# Altium footprint library Connectors_SMD.PcbLib: 40 footprints (part 1 of 3)
Each footprint in its own frame and in the unit in brackets; x right, y up, seen from the top. Pads: shape width x height; smd on the part's side, far side on the other; paste and mask are expansions set on the pad; w line width, h text height; cw(c..) or ccw(c..) is an arc to the next point about the centre after c.
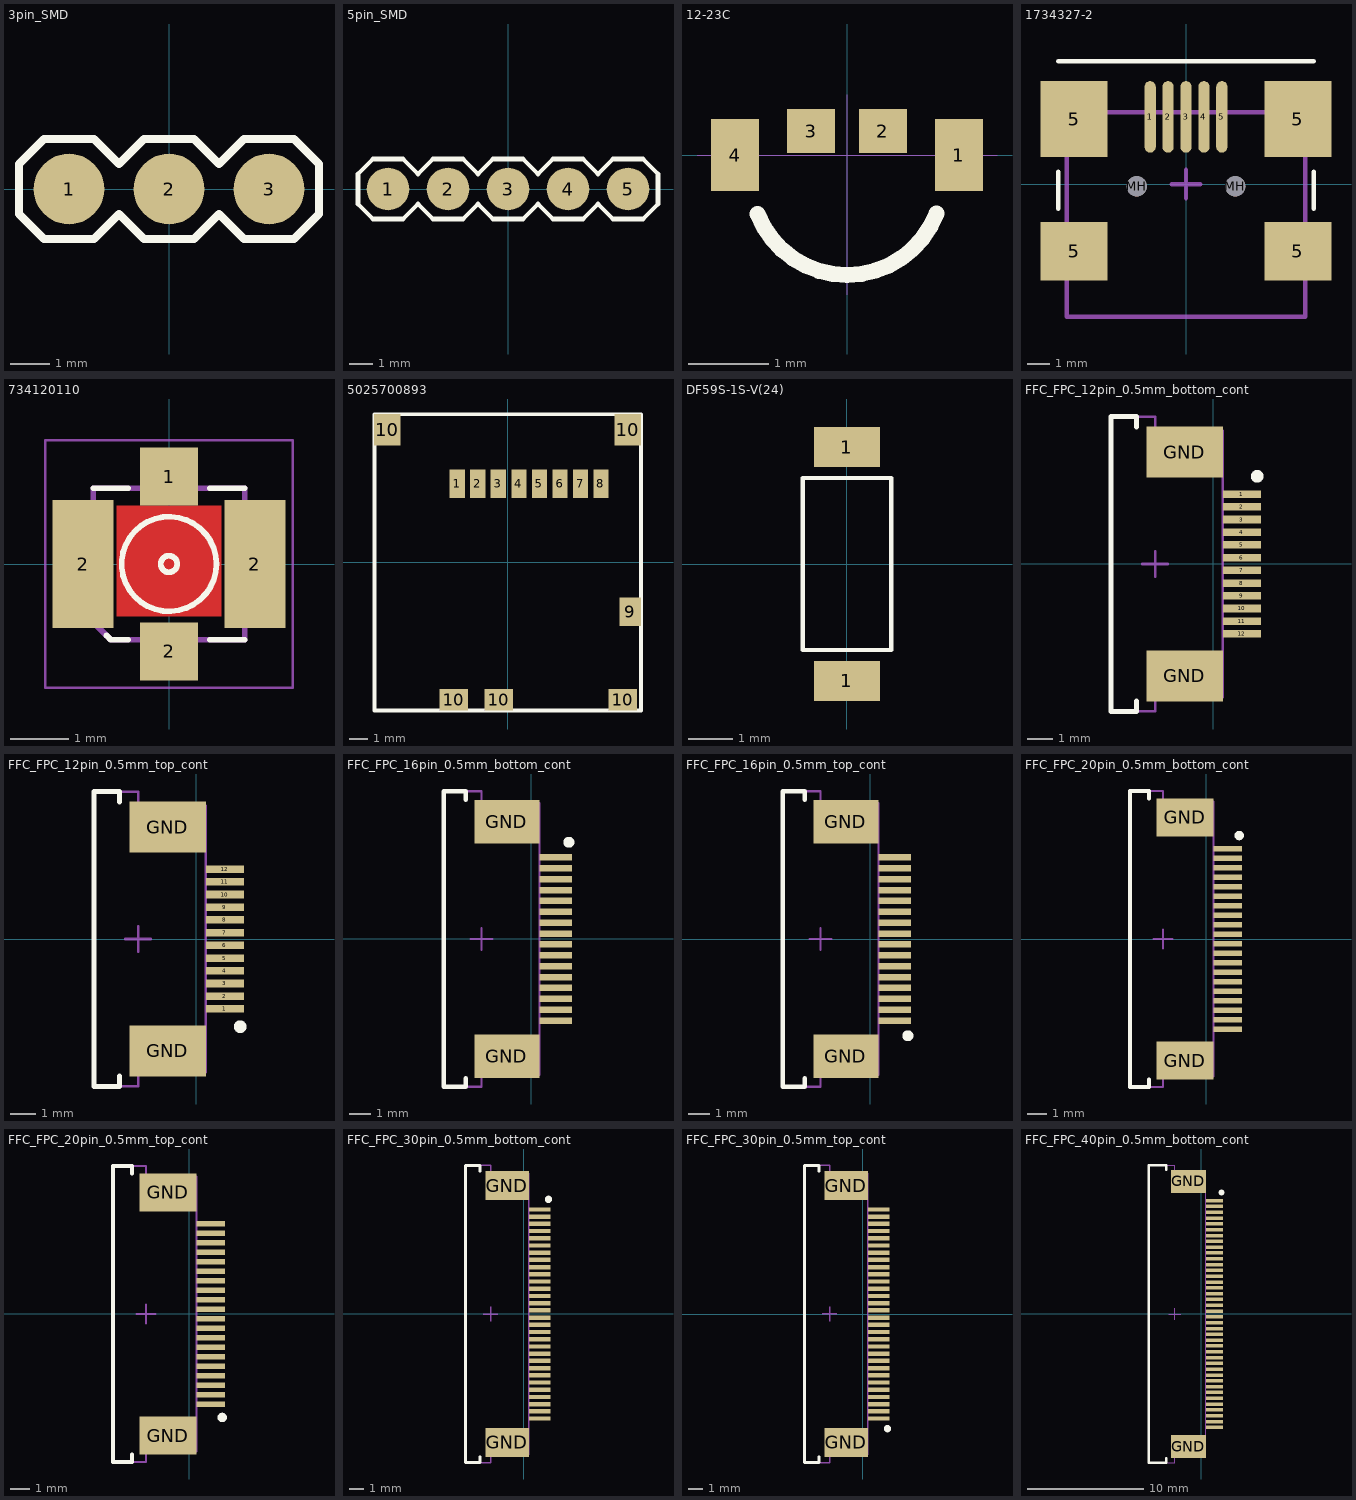
[diagram p0: the footprints below, top view; thin cyan lines are the x and y axes]

## 3pin_SMD [mm]
pads (3):
  round 1.8 smd: 1(-2.54,0) 2(0,0) 3(2.54,0)
Top Overlay:
  lines w0.2: -3.81,-0.635 -3.175,-1.27 -1.905,-1.27 -1.27,-0.635 -0.635,-1.27 0.635,-1.27 1.27,-0.635 1.905,-1.27 3.175,-1.27 3.81,-0.635 3.81,0.635 3.175,1.27 1.905,1.27 1.27,0.635 0.635,1.27 -0.635,1.27 -1.27,0.635 -1.905,1.27 -3.175,1.27 -3.81,0.635 -3.81,-0.635

## 5pin_SMD [mm]
pads (5):
  round 1.8 smd: 1(-5.08,0) 2(-2.54,0) 3(0,0) 4(2.54,0) 5(5.08,0)
Top Overlay:
  lines w0.2: -6.35,-0.635 -5.715,-1.27 -4.445,-1.27 -3.81,-0.635 -3.175,-1.27 -1.905,-1.27 -1.27,-0.635 -0.635,-1.27 0.635,-1.27 1.27,-0.635 1.905,-1.27 3.175,-1.27 3.81,-0.635 4.445,-1.27 5.715,-1.27 6.35,-0.635 6.35,0.635 5.715,1.27 4.445,1.27 3.81,0.635 3.175,1.27 1.905,1.27 1.27,0.635 0.635,1.27 -0.635,1.27 -1.27,0.635 -1.905,1.27 -3.175,1.27 -3.81,0.635 -4.445,1.27 -5.715,1.27 -6.35,0.635 -6.35,-0.635

## 12-23C [mm] "Full Color Chip LED (Chip LED with Right Angle Lens)"
height 1
pads (4):
  rect 0.6x0.9 smd: 1(1.4,0) 4(-1.4,0)
  rect 0.6x0.55 smd: 2(0.45,0.3) 3(-0.45,0.3)
Top Overlay:
  lines w0.2: -1.117,-0.737 ccw(c0,-0.3) 1.119,-0.732
Mechanical 14:
  lines w0.01: -1.875,0 1.875,0 ; 0,-1.75 0,0.75
3D body "APFA3010.STEP": height 1.48, standoff -0.03, extent -1.5,-0.5 1.5,0.5

## 1734327-2 [mm] "MINI USB Connector A series, RCPT, R/A, SMT Type"
height 3.95
pads (11):
  oval 0.5x3.2 smd: 1(-1.6,3) 2(-0.8,3) 3(0,3) 4(0.8,3) 5(1.6,3)
  rect 3x2.6 smd: 5(-5,-3) 5(5,-3)
  rect 3x3.4 smd: 5(-5,2.9) 5(5,2.9)
  round 0.9 hole 0.9 unplated: MH(-2.2,-0.1) MH(2.2,-0.1)
Top Overlay:
  lines w0.2: -5.715,-1.109 -5.715,0.542 ; -5.715,5.495 5.715,5.495 ; 5.715,-1.109 5.715,0.542
Mechanical 13:
  lines w0.2: -5.334,-5.935 -5.334,3.209 5.334,3.209 5.334,-5.935 -5.334,-5.935
Mechanical 15:
  lines w0.2: -0.635,0 0.635,0 ; 0,-0.635 0,0.635
3D body "SB_mini_B.step": height 3.95, standoff -1, extent -5.35,-5.973 5.35,3.227

## 734120110 [mm] "1 Inner needle IPEX Board Edge 1.3mm 6GHz 2mm SMD RF Connectors / Coaxial Connectors"
height 0.6
pads (4):
  rect 1x1 smd: 1(0,1.5) 2(0,-1.5)
  rect 1.05x2.2 smd: 2(-1.475,0) 2(1.475,0)
Top Layer:
  pour cut-out: -0.9,1 0.9,1 0.9,-0.9 -0.9,-0.9
Top Overlay:
  circle w0.1: c0,0 r0.813
  circle w0.1: c0,0 r0.141
  lines w0.1: -1.3,1.3 -0.7,1.3 ; -1.071,-1.229 -1,-1.3 -0.7,-1.3 ; 0.7,-1.3 1.3,-1.3 ; 0.7,1.3 1.3,1.3
Mechanical 5:
  lines w0.1: -1.3,-1 -1,-1.3 1.3,-1.3 1.3,1.3 -1.3,1.3 -1.3,-1
Mechanical 15:
  lines w0.05: -2.125,-2.125 -2.125,2.125 2.125,2.125 2.125,-2.125 -2.125,-2.125
  lines w0.1: -0.45,0 0.45,0 ; 0,-0.45 0,0.45
3D body "734120110.stp": height 1.3, standoff 0, extent -1.5,-1.54 1.5,1.54

## 5025700893 [mil] "Molex MicroSD Conector"
height 70.87
pads (14):
  rect 32x60 smd: 1(-106.3,166) 2(-62.99,166) 3(-19.68,166) 4(24,166) 5(67,166) 6(111,166) 7(154,166) 8(197,166)
  rect 46x60 smd: 9(259,-104.33)
  rect 56x67 smd: 10(-253.94,280) 10(254,280)
  rect 60x46 smd: 10(-114.17,-290.35) 10(-19.17,-290.35) 10(243,-290.35)
Top Overlay:
  lines w7.87: -281.5,-312.99 -281.5,313 282,313 282,-312.99 -281.5,-312.99
3D body "5025700893.stp": height 70.87, standoff 0, extent -272.64,-305.12 270.67,305.12

## DF59S-1S-V(24) [mm] "Electrical contact for PCB"
height 1
pads (2):
  rect 1.5x0.9 smd: 1(0,-2.65) 1(0,2.65)
Top Overlay:
  lines w0.1: -1,-1.95 -1,1.95 1,1.95 1,-1.95 -1,-1.95
3D body "HIROSE_DF59S_for_PCB.STEP": height 1, standoff 0, extent -0.85,-2.9 0.85,2.9

## FFC_FPC_12pin_0.5mm_bottom_cont [mm] "0.5mm FFC/FPC connector, 90° SMT type, ZIF, bottom contact style"
height 2
pads (14):
  rect 1.5x0.3 smd: 1(1.125,2.75) 2(1.125,2.25) 3(1.125,1.75) 4(1.125,1.25) 5(1.125,0.75) 6(1.125,0.25) 7(1.125,-0.25) 8(1.125,-0.75) 9(1.125,-1.25) 10(1.125,-1.75) 11(1.125,-2.25) 12(1.125,-2.75)
  rect 3x2 smd: GND(-1.125,-4.4) GND(-1.125,4.4)
Top Overlay:
  circle w0.25: c1.725,3.45 r0.125
  lines w0.2: -3.025,-5.4 -3.025,-5.8 -4.025,-5.8 -4.025,5.8 -3.025,5.8 -3.025,5.4
Mechanical 13:
  lines w0.1: -4.025,-5.8 -4.025,5.8 -2.288,5.8 -2.288,5.25 0.375,5.25 0.375,-5.25 -2.288,-5.25 -2.288,-5.8 -4.025,-5.8
Mechanical 15:
  lines w0.05: -4.025,-5.8 -4.025,5.8 -2.288,5.8 -2.288,5.25 0.375,5.25 0.375,-5.25 -2.288,-5.25 -2.288,-5.8 -4.025,-5.8
  lines w0.1: -2.788,0 -1.788,0 ; -2.288,-0.5 -2.288,0.5
3D body: height 2, standoff 0.1, extent -3.025,-5.25 0.375,5.25
3D body: height 2, standoff 0.1, extent -4.025,-5.8 -3.025,5.8

## FFC_FPC_12pin_0.5mm_top_cont [mm] "0.5mm FFC/FPC connector, 90° SMT type, ZIF, top contact style"
height 2
pads (14):
  rect 1.5x0.3 smd: 1(1.125,-2.75) 2(1.125,-2.25) 3(1.125,-1.75) 4(1.125,-1.25) 5(1.125,-0.75) 6(1.125,-0.25) 7(1.125,0.25) 8(1.125,0.75) 9(1.125,1.25) 10(1.125,1.75) 11(1.125,2.25) 12(1.125,2.75)
  rect 3x2 smd: GND(-1.125,-4.4) GND(-1.125,4.4)
Top Overlay:
  circle w0.25: c1.725,-3.45 r0.125
  lines w0.2: -3.025,-5.4 -3.025,-5.8 -4.025,-5.8 -4.025,5.8 -3.025,5.8 -3.025,5.4
Mechanical 13:
  lines w0.1: -4.025,-5.8 -4.025,5.8 -2.288,5.8 -2.288,5.25 0.375,5.25 0.375,-5.25 -2.288,-5.25 -2.288,-5.8 -4.025,-5.8
Mechanical 15:
  lines w0.05: -4.025,-5.8 -4.025,5.8 -2.288,5.8 -2.288,5.25 0.375,5.25 0.375,-5.25 -2.288,-5.25 -2.288,-5.8 -4.025,-5.8
  lines w0.1: -2.788,0 -1.788,0 ; -2.288,-0.5 -2.288,0.5
3D body: height 2, standoff 0.1, extent -3.025,-5.25 0.375,5.25
3D body: height 2, standoff 0.1, extent -4.025,-5.8 -3.025,5.8

## FFC_FPC_16pin_0.5mm_bottom_cont [mm] "0.5mm FFC/FPC connector, 90° SMT type, ZIF, bottom contact style"
height 2
pads (18):
  rect 1.5x0.3 smd: 1(1.125,3.75) 2(1.125,3.25) 3(1.125,2.75) 4(1.125,2.25) 5(1.125,1.75) 6(1.125,1.25) 7(1.125,0.75) 8(1.125,0.25) 9(1.125,-0.25) 10(1.125,-0.75) 11(1.125,-1.25) 12(1.125,-1.75) 13(1.125,-2.25) 14(1.125,-2.75) 15(1.125,-3.25) 16(1.125,-3.75)
  rect 3x2 smd: GND(-1.125,-5.4) GND(-1.125,5.4)
Top Overlay:
  circle w0.25: c1.725,4.45 r0.125
  lines w0.2: -3.025,-6.4 -3.025,-6.8 -4.025,-6.8 -4.025,6.8 -3.025,6.8 -3.025,6.4
Mechanical 13:
  lines w0.1: -4.025,-6.8 -4.025,6.8 -2.288,6.8 -2.288,6.25 0.375,6.25 0.375,-6.25 -2.288,-6.25 -2.288,-6.8 -4.025,-6.8
Mechanical 15:
  lines w0.05: -4.025,-6.8 -4.025,6.8 -2.288,6.8 -2.288,6.25 0.375,6.25 0.375,-6.25 -2.288,-6.25 -2.288,-6.8 -4.025,-6.8
  lines w0.1: -2.788,0 -1.788,0 ; -2.288,-0.5 -2.288,0.5
3D body: height 2, standoff 0.1, extent -4.025,-6.8 -3.025,6.8
3D body: height 2, standoff 0.1, extent -3.025,-6.25 0.375,6.25

## FFC_FPC_16pin_0.5mm_top_cont [mm] "0.5mm FFC/FPC connector, 90° SMT type, ZIF, top contact style"
height 2
pads (18):
  rect 1.5x0.3 smd: 1(1.125,-3.75) 2(1.125,-3.25) 3(1.125,-2.75) 4(1.125,-2.25) 5(1.125,-1.75) 6(1.125,-1.25) 7(1.125,-0.75) 8(1.125,-0.25) 9(1.125,0.25) 10(1.125,0.75) 11(1.125,1.25) 12(1.125,1.75) 13(1.125,2.25) 14(1.125,2.75) 15(1.125,3.25) 16(1.125,3.75)
  rect 3x2 smd: GND(-1.125,-5.4) GND(-1.125,5.4)
Top Overlay:
  circle w0.25: c1.725,-4.45 r0.125
  lines w0.2: -3.025,-6.4 -3.025,-6.8 -4.025,-6.8 -4.025,6.8 -3.025,6.8 -3.025,6.4
Mechanical 13:
  lines w0.1: -4.025,-6.8 -4.025,6.8 -2.288,6.8 -2.288,6.25 0.375,6.25 0.375,-6.25 -2.288,-6.25 -2.288,-6.8 -4.025,-6.8
Mechanical 15:
  lines w0.05: -4.025,-6.8 -4.025,6.8 -2.288,6.8 -2.288,6.25 0.375,6.25 0.375,-6.25 -2.288,-6.25 -2.288,-6.8 -4.025,-6.8
  lines w0.1: -2.788,0 -1.788,0 ; -2.288,-0.5 -2.288,0.5
3D body: height 2, standoff 0.1, extent -3.025,-6.25 0.375,6.25
3D body: height 2, standoff 0.1, extent -4.025,-6.8 -3.025,6.8

## FFC_FPC_20pin_0.5mm_bottom_cont [mm] "0.5mm FFC/FPC connector, 90° SMT type, ZIF, bottom contact style"
height 2
pads (22):
  rect 1.5x0.3 smd: 1(1.125,4.75) 2(1.125,4.25) 3(1.125,3.75) 4(1.125,3.25) 5(1.125,2.75) 6(1.125,2.25) 7(1.125,1.75) 8(1.125,1.25) 9(1.125,0.75) 10(1.125,0.25) 11(1.125,-0.25) 12(1.125,-0.75) 13(1.125,-1.25) 14(1.125,-1.75) 15(1.125,-2.25) 16(1.125,-2.75) 17(1.125,-3.25) 18(1.125,-3.75) 19(1.125,-4.25) 20(1.125,-4.75)
  rect 3x2 smd: GND(-1.125,-6.4) GND(-1.125,6.4)
Top Overlay:
  circle w0.25: c1.725,5.45 r0.125
  lines w0.2: -3.025,-7.4 -3.025,-7.8 -4.025,-7.8 -4.025,7.8 -3.025,7.8 -3.025,7.4
Mechanical 13:
  lines w0.1: -4.025,-7.8 -2.288,-7.8 -2.288,-7.25 0.375,-7.25 0.375,7.25 -2.288,7.25 -2.288,7.8 -4.025,7.8 -4.025,-7.8
Mechanical 15:
  lines w0.05: -4.025,-7.8 -2.288,-7.8 -2.288,-7.25 0.375,-7.25 0.375,7.25 -2.288,7.25 -2.288,7.8 -4.025,7.8 -4.025,-7.8
  lines w0.1: -2.788,0 -1.788,0 ; -2.288,-0.5 -2.288,0.5
3D body: height 2, standoff 0.1, extent -4.025,-7.8 -3.025,7.8
3D body: height 2, standoff 0.1, extent -3.025,-7.25 0.375,7.25

## FFC_FPC_20pin_0.5mm_top_cont [mm] "0.5mm FFC/FPC connector, 90° SMT type, ZIF, top contact style"
height 2
pads (22):
  rect 1.5x0.3 smd: 1(1.125,-4.75) 2(1.125,-4.25) 3(1.125,-3.75) 4(1.125,-3.25) 5(1.125,-2.75) 6(1.125,-2.25) 7(1.125,-1.75) 8(1.125,-1.25) 9(1.125,-0.75) 10(1.125,-0.25) 11(1.125,0.25) 12(1.125,0.75) 13(1.125,1.25) 14(1.125,1.75) 15(1.125,2.25) 16(1.125,2.75) 17(1.125,3.25) 18(1.125,3.75) 19(1.125,4.25) 20(1.125,4.75)
  rect 3x2 smd: GND(-1.125,-6.4) GND(-1.125,6.4)
Top Overlay:
  circle w0.25: c1.725,-5.45 r0.125
  lines w0.2: -3.025,-7.4 -3.025,-7.8 -4.025,-7.8 -4.025,7.8 -3.025,7.8 -3.025,7.4
Mechanical 13:
  lines w0.1: -4.025,-7.8 -4.025,7.8 -2.288,7.8 -2.288,7.25 0.375,7.25 0.375,-7.25 -2.288,-7.25 -2.288,-7.8 -4.025,-7.8
Mechanical 15:
  lines w0.05: -4.025,-7.8 -4.025,7.8 -2.288,7.8 -2.288,7.25 0.375,7.25 0.375,-7.25 -2.288,-7.25 -2.288,-7.8 -4.025,-7.8
  lines w0.1: -2.788,0 -1.788,0 ; -2.288,-0.5 -2.288,0.5
3D body: height 2, standoff 0.1, extent -3.025,-7.25 0.375,7.25
3D body: height 2, standoff 0.1, extent -4.025,-7.8 -3.025,7.8

## FFC_FPC_30pin_0.5mm_bottom_cont [mm] "0.5mm FFC/FPC connector, 90° SMT type, ZIF, bottom contact style"
height 2
pads (32):
  rect 1.5x0.3 smd: 1(1.125,7.25) 2(1.125,6.75) 3(1.125,6.25) 4(1.125,5.75) 5(1.125,5.25) 6(1.125,4.75) 7(1.125,4.25) 8(1.125,3.75) 9(1.125,3.25) 10(1.125,2.75) 11(1.125,2.25) 12(1.125,1.75) 13(1.125,1.25) 14(1.125,0.75) 15(1.125,0.25) 16(1.125,-0.25) 17(1.125,-0.75) 18(1.125,-1.25) 19(1.125,-1.75) 20(1.125,-2.25) 21(1.125,-2.75) 22(1.125,-3.25) 23(1.125,-3.75) 24(1.125,-4.25) 25(1.125,-4.75) 26(1.125,-5.25) 27(1.125,-5.75) 28(1.125,-6.25) 29(1.125,-6.75) 30(1.125,-7.25)
  rect 3x2 smd: GND(-1.125,-8.9) GND(-1.125,8.9)
Top Overlay:
  circle w0.25: c1.725,7.95 r0.125
  lines w0.2: -3.025,-9.9 -3.025,-10.3 -4.025,-10.3 -4.025,10.3 -3.025,10.3 -3.025,9.9
Mechanical 13:
  lines w0.1: -4.025,-10.3 -2.288,-10.3 -2.288,-9.75 0.375,-9.75 0.375,9.75 -2.288,9.75 -2.288,10.3 -4.025,10.3 -4.025,-10.3
Mechanical 15:
  lines w0.05: -4.025,-10.3 -2.288,-10.3 -2.288,-9.75 0.375,-9.75 0.375,9.75 -2.288,9.75 -2.288,10.3 -4.025,10.3 -4.025,-10.3
  lines w0.1: -2.788,0 -1.788,0 ; -2.288,-0.5 -2.288,0.5
3D body: height 2, standoff 0.1, extent -3.025,-9.75 0.375,9.75
3D body: height 2, standoff 0.1, extent -4.025,-10.3 -3.025,10.3

## FFC_FPC_30pin_0.5mm_top_cont [mm] "0.5mm FFC/FPC connector, 90° SMT type, ZIF, top contact style"
height 2
pads (32):
  rect 1.5x0.3 smd: 1(1.125,-7.25) 2(1.125,-6.75) 3(1.125,-6.25) 4(1.125,-5.75) 5(1.125,-5.25) 6(1.125,-4.75) 7(1.125,-4.25) 8(1.125,-3.75) 9(1.125,-3.25) 10(1.125,-2.75) 11(1.125,-2.25) 12(1.125,-1.75) 13(1.125,-1.25) 14(1.125,-0.75) 15(1.125,-0.25) 16(1.125,0.25) 17(1.125,0.75) 18(1.125,1.25) 19(1.125,1.75) 20(1.125,2.25) 21(1.125,2.75) 22(1.125,3.25) 23(1.125,3.75) 24(1.125,4.25) 25(1.125,4.75) 26(1.125,5.25) 27(1.125,5.75) 28(1.125,6.25) 29(1.125,6.75) 30(1.125,7.25)
  rect 3x2 smd: GND(-1.125,-8.9) GND(-1.125,8.9)
Top Overlay:
  circle w0.25: c1.725,-7.95 r0.125
  lines w0.2: -3.025,-9.9 -3.025,-10.3 -4.025,-10.3 -4.025,10.3 -3.025,10.3 -3.025,9.9
Mechanical 13:
  lines w0.1: -4.025,-10.3 -2.288,-10.3 -2.288,-9.75 0.375,-9.75 0.375,9.75 -2.288,9.75 -2.288,10.3 -4.025,10.3 -4.025,-10.3
Mechanical 15:
  lines w0.05: -4.025,-10.3 -2.288,-10.3 -2.288,-9.75 0.375,-9.75 0.375,9.75 -2.288,9.75 -2.288,10.3 -4.025,10.3 -4.025,-10.3
  lines w0.1: -2.788,0 -1.788,0 ; -2.288,-0.5 -2.288,0.5
3D body: height 2, standoff 0.1, extent -4.025,-10.3 -3.025,10.3
3D body: height 2, standoff 0.1, extent -3.025,-9.75 0.375,9.75

## FFC_FPC_40pin_0.5mm_bottom_cont [mm] "0.5mm FFC/FPC connector, 90° SMT type, ZIF, bottom contact style"
height 2
pads (42):
  rect 1.5x0.3 smd: 1(1.125,9.75) 2(1.125,9.25) 3(1.125,8.75) 4(1.125,8.25) 5(1.125,7.75) 6(1.125,7.25) 7(1.125,6.75) 8(1.125,6.25) 9(1.125,5.75) 10(1.125,5.25) 11(1.125,4.75) 12(1.125,4.25) 13(1.125,3.75) 14(1.125,3.25) 15(1.125,2.75) 16(1.125,2.25) 17(1.125,1.75) 18(1.125,1.25) 19(1.125,0.75) 20(1.125,0.25) 21(1.125,-0.25) 22(1.125,-0.75) 23(1.125,-1.25) 24(1.125,-1.75) 25(1.125,-2.25) 26(1.125,-2.75) 27(1.125,-3.25) 28(1.125,-3.75) 29(1.125,-4.25) 30(1.125,-4.75) 31(1.125,-5.25) 32(1.125,-5.75) 33(1.125,-6.25) 34(1.125,-6.75) 35(1.125,-7.25) 36(1.125,-7.75) 37(1.125,-8.25) 38(1.125,-8.75) 39(1.125,-9.25) 40(1.125,-9.75)
  rect 3x2 smd: GND(-1.125,-11.4) GND(-1.125,11.4)
Top Overlay:
  circle w0.25: c1.725,10.45 r0.125
  lines w0.2: -3.025,-12.4 -3.025,-12.8 -4.525,-12.8 -4.525,12.8 -3.025,12.8 -3.025,12.4
Mechanical 13:
  lines w0.1: -4.525,-12.8 -2.288,-12.8 -2.288,-12.25 0.375,-12.25 0.375,12.25 -2.288,12.25 -2.288,12.8 -4.525,12.8 -4.525,-12.8
Mechanical 15:
  lines w0.05: -4.525,-12.8 -2.288,-12.8 -2.288,-12.25 0.375,-12.25 0.375,12.25 -2.288,12.25 -2.288,12.8 -4.525,12.8 -4.525,-12.8
  lines w0.1: -2.788,0 -1.788,0 ; -2.288,-0.5 -2.288,0.5
3D body: height 2, standoff 0.1, extent -4.525,-12.8 -3.025,12.8
3D body: height 2, standoff 0.1, extent -3.025,-12.25 0.375,12.25